# Altium footprint library toshiba.PCBLIB: 5 footprints
Each footprint in its own frame and in the unit in brackets; x right, y up, seen from the top. Pads: shape width x height; smd on the part's side, far side on the other; paste and mask are expansions set on the pad; w line width, h text height; cw(c..) or ccw(c..) is an arc to the next point about the centre after c.
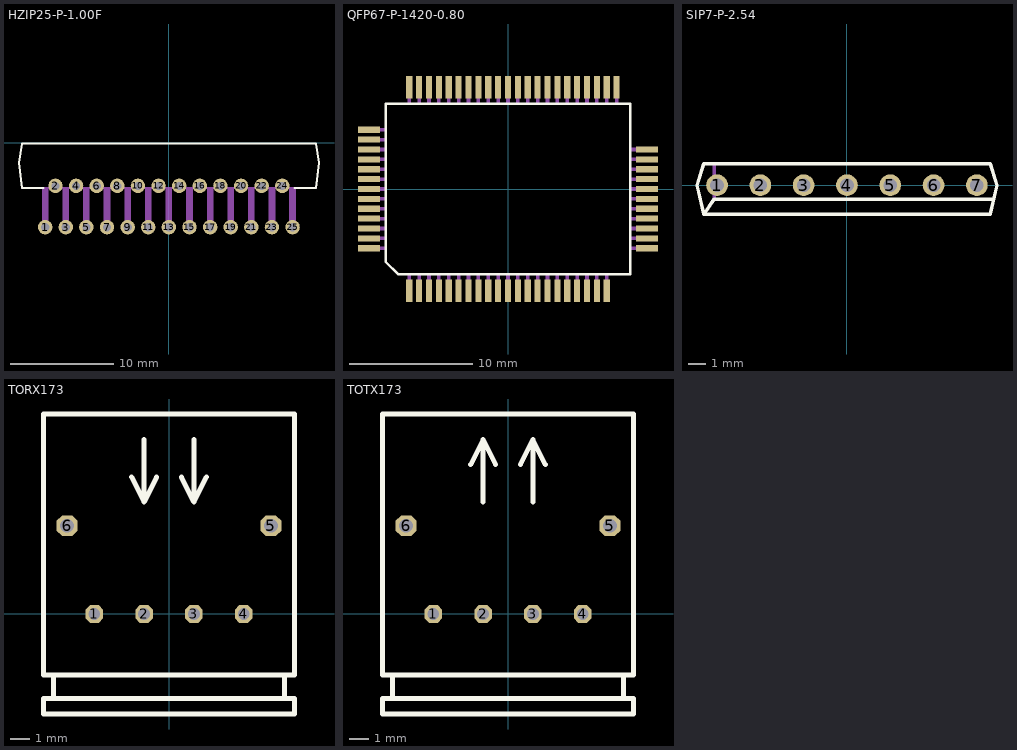
[diagram p0: the footprints below, top view; thin cyan lines are the x and y axes]

## HZIP25-P-1.00F [mil]
pads (25):
  round 55.12 hole 31.5: 1(-472.44,-322.83) 2(-433.07,-165.35) 3(-393.7,-322.83) 4(-354.33,-165.35) 5(-314.96,-322.83) 6(-275.59,-165.35) 7(-236.22,-322.83) 8(-196.85,-165.35) 9(-157.48,-322.83) 10(-118.11,-165.35) 11(-78.74,-322.83) 12(-39.37,-165.35) 13(0,-322.83) 14(39.37,-165.35) 15(78.74,-322.83) 16(118.11,-165.35) 17(157.48,-322.83) 18(196.85,-165.35) 19(236.22,-322.83) 20(275.59,-165.35) 21(314.96,-322.83) 22(354.33,-165.35) 23(393.7,-322.83) 24(433.07,-165.35) 25(472.44,-322.83)
Top Overlay:
  lines w8: -478.84,-173.23 -560.53,-173.23 -572.34,-77.26 -560.53,-3.94 561.52,-3.94 573.33,-77.26 561.52,-173.23 479.33,-173.23
Mechanical 16:
  rectangle: -485.24,-322.34 -459.65,-171.26
  rectangle: -406.5,-322.34 -380.91,-171.26
  rectangle: -327.76,-322.34 -302.17,-171.26
  rectangle: -249.02,-322.34 -223.43,-171.26
  rectangle: -170.28,-322.34 -144.69,-171.26
  rectangle: -91.54,-322.34 -65.94,-171.26
  rectangle: -12.8,-322.34 12.8,-171.26
  rectangle: 65.94,-322.34 91.54,-171.26
  rectangle: 144.69,-322.34 170.28,-171.26
  rectangle: 223.43,-322.34 249.02,-171.26
  rectangle: 302.17,-322.34 327.76,-171.26
  rectangle: 380.91,-322.34 406.5,-171.26
  rectangle: 459.65,-322.34 485.24,-171.26
  lines w8: -560.53,-173.23 561.52,-173.23

## QFP67-P-1420-0.80 [mm]
pads (67):
  rect 0.5x1.8 smd: 1(-8,-8.25) 2(-7.2,-8.25) 3(-6.4,-8.25) 4(-5.6,-8.25) 5(-4.8,-8.25) 6(-4,-8.25) 7(-3.2,-8.25) 8(-2.4,-8.25) 9(-1.6,-8.25) 10(-0.8,-8.25) 11(0,-8.25) 12(0.8,-8.25) 13(1.6,-8.25) 14(2.4,-8.25) 15(3.2,-8.25) 16(4,-8.25) 17(4.8,-8.25) 18(5.6,-8.25) 19(6.4,-8.25) 20(7.2,-8.25) 21(8,-8.25) 33(8.8,8.25) 34(8,8.25) 35(7.2,8.25) 36(6.4,8.25) 37(5.6,8.25) 38(4.8,8.25) 39(4,8.25) 40(3.2,8.25) 41(2.4,8.25) 42(1.6,8.25) 43(0.8,8.25) 44(0,8.25) 45(-0.8,8.25) 46(-1.6,8.25) 47(-2.4,8.25) 48(-3.2,8.25) 49(-4,8.25) 50(-4.8,8.25) 51(-5.6,8.25) 52(-6.4,8.25) 53(-7.2,8.25) 54(-8,8.25)
  rect 1.8x0.5 smd: 22(11.25,-4.8) 23(11.25,-4) 24(11.25,-3.2) 25(11.25,-2.4) 26(11.25,-1.6) 27(11.25,-0.8) 28(11.25,0) 29(11.25,0.8) 30(11.25,1.6) 31(11.25,2.4) 32(11.25,3.2) 55(-11.25,4.8) 56(-11.25,4) 57(-11.25,3.2) 58(-11.25,2.4) 59(-11.25,1.6) 60(-11.25,0.8) 61(-11.25,0) 62(-11.25,-0.8) 63(-11.25,-1.6) 64(-11.25,-2.4) 65(-11.25,-3.2) 66(-11.25,-4) 67(-11.25,-4.8)
Top Overlay:
  lines w0.203: -9.9,-5.9 -8.9,-6.9 9.9,-6.9 9.9,6.9 -9.9,6.9 -9.9,-5.9
Mechanical 16:
  region: -7.85,-9 -7.85,-6.975 -8.15,-6.975 -8.15,-9
  region: -7.05,-9 -7.05,-6.975 -7.35,-6.975 -7.35,-9
  region: -6.25,-9 -6.25,-6.975 -6.55,-6.975 -6.55,-9
  region: -5.45,-9 -5.45,-6.975 -5.75,-6.975 -5.75,-9
  region: -4.65,-9 -4.65,-6.975 -4.95,-6.975 -4.95,-9
  region: -3.85,-9 -3.85,-6.975 -4.15,-6.975 -4.15,-9
  region: -3.05,-9 -3.05,-6.975 -3.35,-6.975 -3.35,-9
  region: -2.25,-9 -2.25,-6.975 -2.55,-6.975 -2.55,-9
  region: -1.45,-9 -1.45,-6.975 -1.75,-6.975 -1.75,-9
  region: -0.65,-9 -0.65,-6.975 -0.95,-6.975 -0.95,-9
  region: 0.15,-9 0.15,-6.975 -0.15,-6.975 -0.15,-9
  region: 0.95,-9 0.95,-6.975 0.65,-6.975 0.65,-9
  region: 1.75,-9 1.75,-6.975 1.45,-6.975 1.45,-9
  region: 2.55,-9 2.55,-6.975 2.25,-6.975 2.25,-9
  region: 3.35,-9 3.35,-6.975 3.05,-6.975 3.05,-9
  region: 4.15,-9 4.15,-6.975 3.85,-6.975 3.85,-9
  region: 4.95,-9 4.95,-6.975 4.65,-6.975 4.65,-9
  region: 5.75,-9 5.75,-6.975 5.45,-6.975 5.45,-9
  region: 6.55,-9 6.55,-6.975 6.25,-6.975 6.25,-9
  region: 7.35,-9 7.35,-6.975 7.05,-6.975 7.05,-9
  region: 8.15,-9 8.15,-6.975 7.85,-6.975 7.85,-9
  region: 12,0.15 9.975,0.15 9.975,-0.15 12,-0.15
  region: 12,-4.65 9.975,-4.65 9.975,-4.95 12,-4.95
  region: 12,-3.85 9.975,-3.85 9.975,-4.15 12,-4.15
  region: 12,-3.05 9.975,-3.05 9.975,-3.35 12,-3.35
  region: 12,-2.25 9.975,-2.25 9.975,-2.55 12,-2.55
  region: 12,-1.45 9.975,-1.45 9.975,-1.75 12,-1.75
  region: 12,-0.65 9.975,-0.65 9.975,-0.95 12,-0.95
  region: 12,0.95 9.975,0.95 9.975,0.65 12,0.65
  region: 12,1.75 9.975,1.75 9.975,1.45 12,1.45
  region: 12,2.55 9.975,2.55 9.975,2.25 12,2.25
  region: 12,3.35 9.975,3.35 9.975,3.05 12,3.05
  region: 8.65,9 8.65,6.975 8.95,6.975 8.95,9
  region: 7.85,9 7.85,6.975 8.15,6.975 8.15,9
  region: 7.05,9 7.05,6.975 7.35,6.975 7.35,9
  region: 6.25,9 6.25,6.975 6.55,6.975 6.55,9
  region: 5.45,9 5.45,6.975 5.75,6.975 5.75,9
  region: 4.65,9 4.65,6.975 4.95,6.975 4.95,9
  region: 3.85,9 3.85,6.975 4.15,6.975 4.15,9
  region: 3.05,9 3.05,6.975 3.35,6.975 3.35,9
  region: 2.25,9 2.25,6.975 2.55,6.975 2.55,9
  region: 1.45,9 1.45,6.975 1.75,6.975 1.75,9
  region: 0.65,9 0.65,6.975 0.95,6.975 0.95,9
  region: -0.15,9 -0.15,6.975 0.15,6.975 0.15,9
  region: -0.95,9 -0.95,6.975 -0.65,6.975 -0.65,9
  region: -1.75,9 -1.75,6.975 -1.45,6.975 -1.45,9
  region: -2.55,9 -2.55,6.975 -2.25,6.975 -2.25,9
  region: -3.35,9 -3.35,6.975 -3.05,6.975 -3.05,9
  region: -4.15,9 -4.15,6.975 -3.85,6.975 -3.85,9
  region: -4.95,9 -4.95,6.975 -4.65,6.975 -4.65,9
  region: -5.75,9 -5.75,6.975 -5.45,6.975 -5.45,9
  region: -6.55,9 -6.55,6.975 -6.25,6.975 -6.25,9
  region: -7.35,9 -7.35,6.975 -7.05,6.975 -7.05,9
  region: -8.15,9 -8.15,6.975 -7.85,6.975 -7.85,9
  rectangle: -12,-0.15 -9.975,0.15
  rectangle: -12,4.65 -9.975,4.95
  rectangle: -12,3.85 -9.975,4.15
  rectangle: -12,3.05 -9.975,3.35
  rectangle: -12,2.25 -9.975,2.55
  rectangle: -12,1.45 -9.975,1.75
  rectangle: -12,0.65 -9.975,0.95
  rectangle: -12,-0.95 -9.975,-0.65
  rectangle: -12,-1.75 -9.975,-1.45
  rectangle: -12,-2.55 -9.975,-2.25
  rectangle: -12,-3.35 -9.975,-3.05
  rectangle: -12,-4.15 -9.975,-3.85
  rectangle: -12,-4.95 -9.975,-4.65

## SIP7-P-2.54 [mil]
pads (7):
  round 50 hole 31.5: 1(-300,0) 2(-200,0) 3(-100,0) 4(0,0) 5(100,0) 6(200,0) 7(300,0)
Top Overlay:
  lines w8: -329.53,-65.94 -306.89,-32.48 336.42,-32.48 ; -346.26,0 -330.51,-66.93 330.51,-66.93 346.46,0 330.51,49.21 -330.51,49.21 -346.26,0
Mechanical 16:
  lines w8: -306.1,-32.28 -306.1,46.06

## TORX173 [mm]
pads (6):
  oct 0.9x0.9 hole 0.6: 1(-3.81,0) 2(-1.27,0) 3(1.27,0) 4(3.81,0)
  oct 1.05x1.05 hole 0.7: 5(5.2,4.5) 6(-5.2,4.5)
Top Overlay:
  lines w0.254: -1.905,6.985 -1.27,5.715 ; -1.27,8.89 -1.27,5.715 ; -0.635,6.985 -1.27,5.715 ; 0.635,6.985 1.27,5.715 ; 1.27,8.89 1.27,5.715 ; 1.905,6.985 1.27,5.715 ; -5.9,-4.3 -5.9,-3.1 ; -5.9,-4.3 -6.4,-4.3 -6.4,-5.1 6.4,-5.1 6.4,-4.3 5.9,-4.3 ; -5.9,-4.3 5.9,-4.3 ; -5.9,-3.1 -6.4,-3.1 -6.4,10.2 6.4,10.2 6.4,-3.1 5.9,-3.1 ; -5.9,-3.1 5.9,-3.1 ; 5.9,-4.3 5.9,-3.1

## TOTX173 [mm]
pads (6):
  oct 0.9x0.9 hole 0.6: 1(-3.81,0) 2(-1.27,0) 3(1.27,0) 4(3.81,0)
  oct 1.05x1.05 hole 0.7: 5(5.2,4.5) 6(-5.2,4.5)
Top Overlay:
  lines w0.254: -1.905,7.62 -1.27,8.89 ; -1.27,5.715 -1.27,8.89 ; -0.635,7.62 -1.27,8.89 ; 0.635,7.62 1.27,8.89 ; 1.27,5.715 1.27,8.89 ; 1.905,7.62 1.27,8.89 ; -5.9,-4.3 -5.9,-3.1 ; -5.9,-4.3 -6.4,-4.3 -6.4,-5.1 6.4,-5.1 6.4,-4.3 5.9,-4.3 ; -5.9,-4.3 5.9,-4.3 ; -5.9,-3.1 -6.4,-3.1 -6.4,10.2 6.4,10.2 6.4,-3.1 5.9,-3.1 ; -5.9,-3.1 5.9,-3.1 ; 5.9,-4.3 5.9,-3.1